# Altium footprint library Chips.PcbLib: 116 footprints (part 6 of 8)
Each footprint in its own frame and in the unit in brackets; x right, y up, seen from the top. Pads: shape width x height; smd on the part's side, far side on the other; paste and mask are expansions set on the pad; w line width, h text height; cw(c..) or ccw(c..) is an arc to the next point about the centre after c.
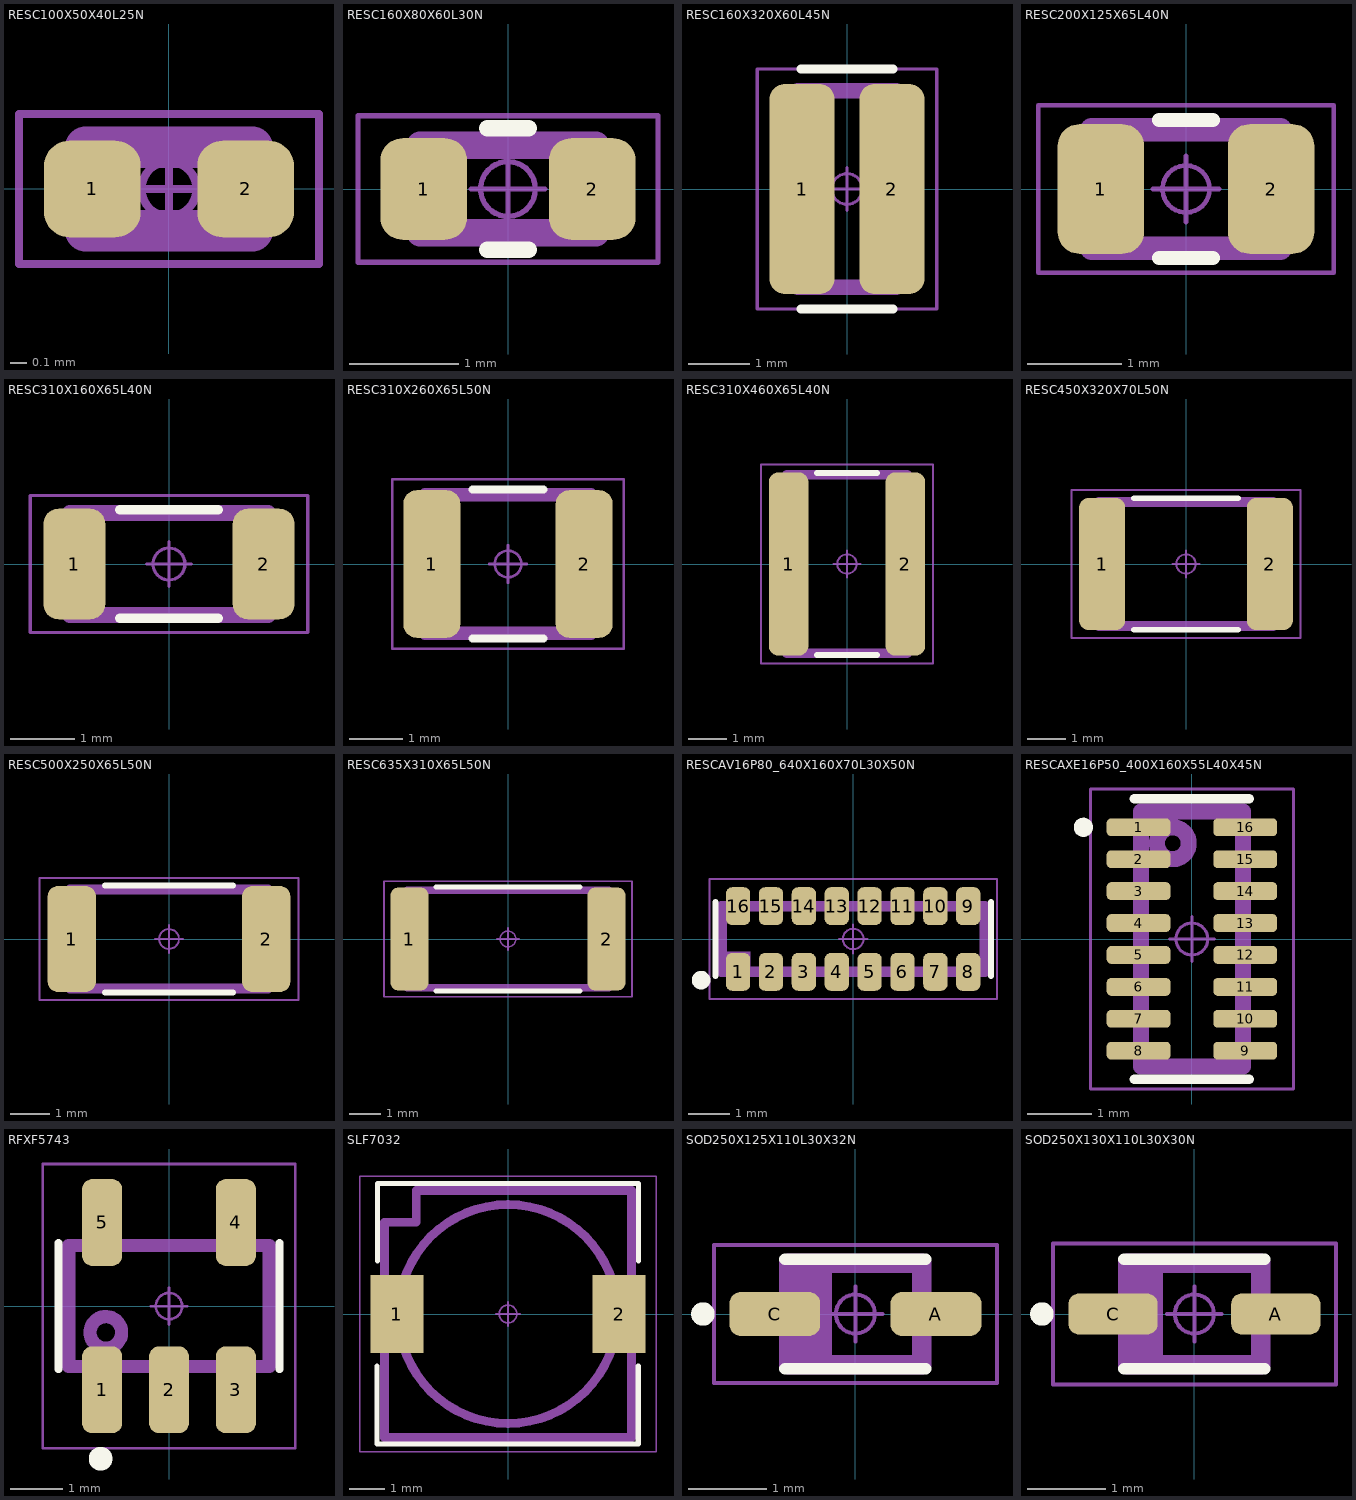
[diagram p5: the footprints below, top view; thin cyan lines are the x and y axes]

## RESC100X50X40L25N [mm] "Resistor, Chip; 1.00 mm L X 0.50 mm W X 0.40 mm H body"
height 0.4
pads (2):
  rrect52% 0.58x0.58 smd: 1(-0.46,0) 2(0.46,0)
Top Assembly:
  lines w0.25: -0.5,-0.25 -0.5,0.25 0.5,0.25 0.5,-0.25 -0.5,-0.25
  text ".Designator" at -2.2,0.8 h1.5
Top Courtyard:
  circle w0.05: c0,0 r0.165
  lines w0.05: -0.22,0 0.22,0 ; 0,-0.22 0,0.22 ; -0.9,-0.45 -0.9,0.45 0.9,0.45 0.9,-0.45 -0.9,-0.45
3D body "RESC100X50X40L25.STEP": height 0.4, standoff 0, extent -0.5,-0.25 0.5,0.25

## RESC160X80X60L30N [mm] "Resistor, Chip; 1.60 mm L X 0.80 mm W X 0.60 mm H body"
height 0.6
pads (2):
  rrect51% 0.79x0.93 smd: 1(-0.77,0) 2(0.77,0)
Top Overlay:
  lines w0.15: -0.19,-0.555 0.19,-0.555 ; -0.19,0.555 0.19,0.555
Top Assembly:
  lines w0.25: -0.8,-0.4 0.8,-0.4 0.8,0.4 -0.8,0.4 -0.8,-0.4
  text ".Designator" at -2.1,0.9 h1.5
Top Courtyard:
  circle w0.05: c0,0 r0.25
  lines w0.05: -0.335,0 0.335,0 ; 0,-0.335 0,0.335 ; -1.37,-0.67 1.37,-0.67 1.37,0.67 -1.37,0.67 -1.37,-0.67
3D body "RESC160X80X60L30.STEP": height 0.6, standoff 0, extent -0.8,-0.4 0.8,0.4

## RESC160X320X60L45N [mm] "Resistor, Chip; 1.60 mm L X 3.20 mm W X 0.60 mm H body"
height 0.6
pads (2):
  rrect47% 1.06x3.42 smd: 1(-0.73,0) 2(0.73,0)
Top Overlay:
  lines w0.15: -0.75,-1.95 0.75,-1.95 ; -0.75,1.95 0.75,1.95
Top Assembly:
  lines w0.25: -0.8,-1.6 0.8,-1.6 0.8,1.6 -0.8,1.6 -0.8,-1.6
  text ".Designator" at 0.525,-1.4 h1.5
Top Courtyard:
  circle w0.05: c0,0 r0.25
  lines w0.05: -0.35,0 0.35,0 ; 0,-0.35 0,0.35 ; -1.46,-1.95 1.46,-1.95 1.46,1.95 -1.46,1.95 -1.46,-1.95
3D body "RESC160X320X60L45.STEP": height 0.6, standoff 0, extent -0.8,-1.6 0.8,1.6

## RESC200X125X65L40N [mm] "Resistor, Chip; 2.00 mm L X 1.25 mm W X 0.65 mm H body"
height 0.65
pads (2):
  rrect50% 0.92x1.38 smd: 1(-0.905,0) 2(0.905,0)
Top Overlay:
  lines w0.15: -0.285,-0.735 0.285,-0.735 ; -0.285,0.735 0.285,0.735
Top Assembly:
  lines w0.25: -1,-0.63 1,-0.63 1,0.63 -1,0.63 -1,-0.63
  text ".Designator" at -2,1.2 h1.5
Top Courtyard:
  circle w0.05: c0,0 r0.25
  lines w0.05: -0.35,0 0.35,0 ; 0,-0.35 0,0.35 ; -1.57,-0.89 1.57,-0.89 1.57,0.89 -1.57,0.89 -1.57,-0.89
3D body "RESC200X125X65L40.STEP": height 0.65, standoff 0, extent -1,-0.625 1,0.625

## RESC310X160X65L40N [mm] "Resistor, Chip; 3.10 mm L X 1.60 mm W X 0.65 mm H body"
height 0.65
pads (2):
  rrect49% 0.97x1.73 smd: 1(-1.48,0) 2(1.48,0)
Top Overlay:
  lines w0.15: -0.77,-0.85 0.77,-0.85 ; -0.77,0.85 0.77,0.85
Top Assembly:
  lines w0.25: -1.55,-0.8 1.55,-0.8 1.55,0.8 -1.55,0.8 -1.55,-0.8
  text ".Designator" at -1.3,-0.4 h1.5
Top Courtyard:
  circle w0.05: c0,0 r0.25
  lines w0.05: -0.35,0 0.35,0 ; 0,-0.35 0,0.35 ; -2.17,-1.07 2.17,-1.07 2.17,1.07 -2.17,1.07 -2.17,-1.07
3D body "RESC310X160X65L40.STEP": height 0.65, standoff 0, extent -1.55,-0.8 1.55,0.8

## RESC310X260X65L50N [mm] "Resistor, Chip; 3.10 mm L X 2.60 mm W X 0.65 mm H body"
height 0.65
pads (2):
  rrect47% 1.07x2.77 smd: 1(-1.43,0) 2(1.43,0)
Top Overlay:
  lines w0.15: -0.67,-1.4 0.67,-1.4 ; -0.67,1.4 0.67,1.4
Top Assembly:
  lines w0.25: -1.55,-1.3 -1.55,1.3 1.55,1.3 1.55,-1.3 -1.55,-1.3
  text ".Designator" at -1.1,-0.4 h1.5
Top Courtyard:
  circle w0.05: c0,0 r0.25
  lines w0.05: -0.35,0 0.35,0 ; 0,-0.35 0,0.35 ; -2.17,-1.59 -2.17,1.59 2.17,1.59 2.17,-1.59 -2.17,-1.59
3D body "RESC310X260X65L50.STEP": height 0.65, standoff 0, extent -1.55,-1.3 1.55,1.3

## RESC310X460X65L40N [mm] "Resistor, Chip; 3.10 mm L X 4.60 mm W X 0.65 mm H body"
height 0.65
pads (2):
  rrect49% 1.02x4.73 smd: 1(-1.505,0) 2(1.505,0)
Top Overlay:
  lines w0.15: -0.77,-2.35 0.77,-2.35 ; -0.77,2.35 0.77,2.35
Top Assembly:
  lines w0.25: -1.55,-2.3 -1.55,2.3 1.55,2.3 1.55,-2.3 -1.55,-2.3
  text ".Designator" at -1.3,-0.3 h1.5
Top Courtyard:
  circle w0.05: c0,0 r0.25
  lines w0.05: -0.35,0 0.35,0 ; 0,-0.35 0,0.35 ; -2.22,-2.57 -2.22,2.57 2.22,2.57 2.22,-2.57 -2.22,-2.57
3D body "RESC310X460X65L40.STEP": height 0.65, standoff 0, extent -1.55,-2.3 1.55,2.3

## RESC450X320X70L50N [mm] "Resistor, Chip; 4.50 mm L X 3.20 mm W X 0.70 mm H body"
height 0.7
pads (2):
  rrect42% 1.19x3.42 smd: 1(-2.165,0) 2(2.165,0)
Top Overlay:
  lines w0.15: -1.345,-1.7 1.345,-1.7 ; -1.345,1.7 1.345,1.7
Top Assembly:
  lines w0.25: -2.25,-1.6 2.25,-1.6 2.25,1.6 -2.25,1.6 -2.25,-1.6
  text ".Designator" at 0,0 h1.5
Top Courtyard:
  circle w0.05: c0,0 r0.25
  lines w0.05: -0.35,0 0.35,0 ; 0,-0.35 0,0.35 ; -2.96,-1.91 2.96,-1.91 2.96,1.91 -2.96,1.91 -2.96,-1.91
3D body "RESC450X320X70L50.STEP": height 0.7, standoff 0, extent -2.25,-1.6 2.25,1.6

## RESC500X250X65L50N [mm] "Resistor, Chip; 5.00 mm L X 2.50 mm W X 0.65 mm H body"
height 0.65
pads (2):
  rrect41% 1.22x2.67 smd: 1(-2.455,0) 2(2.455,0)
Top Overlay:
  lines w0.15: -1.62,-1.35 1.62,-1.35 ; -1.62,1.35 1.62,1.35
Top Assembly:
  lines w0.25: -2.5,-1.25 2.5,-1.25 2.5,1.25 -2.5,1.25 -2.5,-1.25
  text ".Designator" at -2.2,-0.3 h1.5
Top Courtyard:
  circle w0.05: c0,0 r0.25
  lines w0.05: -0.35,0 0.35,0 ; 0,-0.35 0,0.35 ; -3.27,-1.54 3.27,-1.54 3.27,1.54 -3.27,1.54 -3.27,-1.54
3D body "RESC500X250X65L50.STEP": height 0.65, standoff 0, extent -2.5,-1.25 2.5,1.25

## RESC635X310X65L50N [mm] "Resistor, Chip; 6.35 mm L X 3.10 mm W X 0.65 mm H body"
height 0.65
pads (2):
  rrect41% 1.22x3.27 smd: 1(-3.13,0) 2(3.13,0)
Top Overlay:
  lines w0.15: -2.295,-1.65 2.295,-1.65 ; -2.295,1.65 2.295,1.65
Top Assembly:
  lines w0.25: -3.2,-1.55 -3.2,1.55 3.2,1.55 3.2,-1.55 -3.2,-1.55
  text ".Designator" at -2.4,-0.3 h1.5
Top Courtyard:
  circle w0.05: c0,0 r0.25
  lines w0.05: -0.35,0 0.35,0 ; 0,-0.35 0,0.35 ; -3.94,-1.84 -3.94,1.84 3.94,1.84 3.94,-1.84 -3.94,-1.84
3D body "RESC635X310X65L50.STEP": height 0.65, standoff 0, extent -3.175,-1.55 3.175,1.55

## RESCAV16P80_640X160X70L30X50N [mm] "Chip Array, 2 Side Concave, 0.80 mm pitch; 16 pin, 6.40 mm L X 1.60 mm W X 0.70 mm H body"
height 0.7
pads (16):
  rrect51% 0.59x0.92 smd: 1(-2.8,-0.8) 2(-2,-0.8) 3(-1.2,-0.8) 4(-0.4,-0.8) 5(0.4,-0.8) 6(1.2,-0.8) 7(2,-0.8) 8(2.8,-0.8) 9(2.8,0.8) 10(2,0.8) 11(1.2,0.8) 12(0.4,0.8) 13(-0.4,0.8) 14(-1.2,0.8) 15(-2,0.8) 16(-2.8,0.8)
Top Overlay:
  circle w0.25: c-3.7,-1 r0.1
  lines w0.15: -3.35,-0.9 -3.35,0.9 ; 3.35,-0.9 3.35,0.9
Top Assembly:
  rectangle: -3.2,-0.8 -2.5,-0.3
  lines w0.25: -3.2,-0.8 3.2,-0.8 3.2,0.8 -3.2,0.8 -3.2,-0.8
  text ".Designator" at -2.2,-0.4 h1.5
Top Courtyard:
  circle w0.05: c0,0 r0.25
  lines w0.05: -0.35,0 0.35,0 ; 0,-0.35 0,0.35 ; -3.5,-1.46 3.5,-1.46 3.5,1.46 -3.5,1.46 -3.5,-1.46
3D body "RESCAV16P80_640X160X70L30X50.STEP": height 0.7, standoff 0, extent -3.2,-0.85 3.2,0.85

## RESCAXE16P50_400X160X55L40X45N [mm] "Resistor, Chip Array, 2 Side Convex, 0.50 mm pitch; 16 pin, 4.00 mm L X 1.60 mm W X 0.55 mm H body"
height 0.55
pads (16):
  rrect51% 1x0.28 smd: 1(-0.835,1.75) 2(-0.835,1.25) 3(-0.835,0.75) 4(-0.835,0.25) 5(-0.835,-0.25) 6(-0.835,-0.75) 7(-0.835,-1.25) 8(-0.835,-1.75) 9(0.835,-1.75) 10(0.835,-1.25) 11(0.835,-0.75) 12(0.835,-0.25) 13(0.835,0.25) 14(0.835,0.75) 15(0.835,1.25) 16(0.835,1.75)
Top Overlay:
  circle w0.15: c-1.7,1.75 r0.075
  lines w0.15: -0.9,-2.2 0.9,-2.2 ; -0.9,2.2 0.9,2.2
Top Assembly:
  circle w0.25: c-0.3,1.5 r0.25
  lines w0.25: -0.8,-2 -0.8,2 0.8,2 0.8,-2 -0.8,-2
  text ".Designator" at 0.339,-3.378 h1.5
Top Courtyard:
  circle w0.05: c0,0 r0.25
  lines w0.05: -0.35,0 0.35,0 ; 0,-0.35 0,0.35 ; -1.59,-2.35 -1.59,2.35 1.59,2.35 1.59,-2.35 -1.59,-2.35
3D body "RESCAXE16P50_400X160X55L40X45.STEP": height 0.55, standoff 0, extent -0.85,-2 0.85,2

## RFXF5743 [mm] "Mini RF RFXF5743 Case S20"
height 2.79
pads (5):
  rrect50% 0.76x1.65 smd: 1(-1.27,-1.59) 2(0,-1.59) 3(1.27,-1.59) 4(1.27,1.59) 5(-1.27,1.59)
Top Overlay:
  circle w0.25: c-1.3,-2.9 r0.1
  lines w0.15: -2.1,-1.2 -2.1,1.2 ; 2.1,-1.2 2.1,1.2
Top Assembly:
  circle w0.25: c-1.2,-0.5 r0.3
  lines w0.25: -1.905,-1.15 -1.905,1.15 1.905,1.15 1.905,-1.15 -1.905,-1.15
  text ".Designator" at -0.6,-0.4 h1.5
Top Courtyard:
  circle w0.05: c0,0 r0.25
  lines w0.05: -0.35,0 0.35,0 ; 0,-0.35 0,0.35 ; -2.4,-2.7 -2.4,2.7 2.4,2.7 2.4,-2.7 -2.4,-2.7
3D body "CASE S20.STEP": height 2.79, standoff 0, extent -1.905,-1.905 1.905,1.905

## SLF7032 [mm] "TDK SLF7032 type"
height 3.2
pads (2):
  rect 1.5x2.2 smd paste+0: 1(-3.15,0) 2(3.15,0)
Top Overlay:
  lines w0.15: -3.71,-1.483 -3.71,-3.683 3.69,-3.683 3.69,-1.483 ; -3.7,1.5 -3.7,3.7 3.7,3.7 3.7,1.5
Top Assembly:
  circle w0.25: c0,0 r3.1
  lines w0.25: -3.5,-3.5 -3.5,2.6 -2.6,2.6 -2.6,3.5 3.5,3.5 3.5,-3.5 -3.5,-3.5
  text ".Designator" at -2.6,-0.318 h1.5
Top Courtyard:
  circle w0.05: c0,0 r0.25
  lines w0.05: -0.35,0 0.35,0 ; 0,-0.35 0,0.35 ; -4.2,-3.9 -4.2,3.9 4.2,3.9 4.2,-3.9 -4.2,-3.9
3D body "SLF7032.STEP": height 3.2, standoff 0, extent -3.55,-3.5 3.55,3.5

## SOD250X125X110L30X32N [mm] "Diode, Small Outline Diode (SOD); 1.70 mm L X 1.25 mm W X 1.10 mm H body"
height 1.1
pads (2):
  rrect50% 1.16x0.56 smd: A(1.03,0) C(-1.03,0)
Top Overlay:
  circle w0.15: c-1.95,0 r0.075
  lines w0.15: -0.9,-0.7 0.9,-0.7 ; -0.9,0.7 0.9,0.7
Top Assembly:
  rectangle: -0.85,-0.65 -0.3,0.65
  lines w0.25: -0.85,-0.65 -0.85,0.65 0.85,0.65 0.85,-0.65 -0.85,-0.65
  text ".Designator" at -3.378,1.161 h1.5
Top Courtyard:
  circle w0.05: c0,0 r0.25
  lines w0.05: -0.35,0 0.35,0 ; 0,-0.35 0,0.35 ; -1.81,-0.88 -1.81,0.88 1.81,0.88 1.81,-0.88 -1.81,-0.88
3D body "SOD250X125X110L30X32.STEP": height 1.1, standoff 0, extent -1.25,-0.625 1.25,0.625

## SOD250X130X110L30X30N [mm] "Diode, Small Outline Diode (SOD); 1.70 mm L X 1.30 mm W X 1.10 mm H body"
height 1.1
pads (2):
  rrect50% 1.14x0.52 smd: A(1.04,0) C(-1.04,0)
Top Overlay:
  circle w0.15: c-1.95,0 r0.075
  lines w0.15: -0.9,-0.7 0.9,-0.7 ; -0.9,0.7 0.9,0.7
Top Assembly:
  rectangle: -0.9,-0.7 -0.4,0.6
  lines w0.25: -0.85,-0.65 0.85,-0.65 0.85,0.65 -0.85,0.65 -0.85,-0.65
  text ".Designator" at -3.378,1.161 h1.5
Top Courtyard:
  circle w0.05: c0,0 r0.25
  lines w0.05: -0.35,0 0.35,0 ; 0,-0.35 0,0.35 ; -1.81,-0.9 1.81,-0.9 1.81,0.9 -1.81,0.9 -1.81,-0.9
3D body "SOD250X130X110L30X30.STEP": height 1.1, standoff 0, extent -1.25,-0.65 1.25,0.65